# Altium schematic symbol library LM2596S-ADJ.SchLib: 1 symbol
Pins are listed as number, name and electrical type; pins without a type are passive.

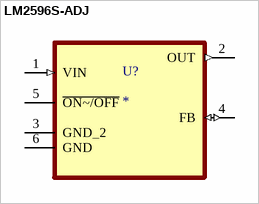
[diagram p0: symbol LM2596S-ADJ]

## LM2596S-ADJ
designator U?
Buck Switching Regulator IC Positive Adjustable 1.2V 1 Output 3A TO-263-6, DÂ²Pak (5 Leads + Tab), TO-263BA; MF: UMW; MP: LM2596S-ADJ; SnapEDA_Link: https://www.snapeda.com/parts/LM2596S-ADJ/Umwelt+Sensor+Teknik/view-part/?ref=snap; Package: None; Value: *; Check_prices: https://www.snapeda.com/parts/LM2596S-ADJ/Umwelt+Sensor+Teknik/view-part/?ref=eda
footprint LM2596S-ADJ
pins: 1 VIN (in), 2 OUT (out), 3 GND_2, 4 FB (io), 5 ~{ON~/OFF}, 6 GND